# Altium footprint library 0805rgb.PcbLib: 2 footprints
Each footprint in its own frame and in the unit in brackets; x right, y up, seen from the top. Pads: shape width x height; smd on the part's side, far side on the other; paste and mask are expansions set on the pad; w line width, h text height; cw(c..) or ccw(c..) is an arc to the next point about the centre after c.
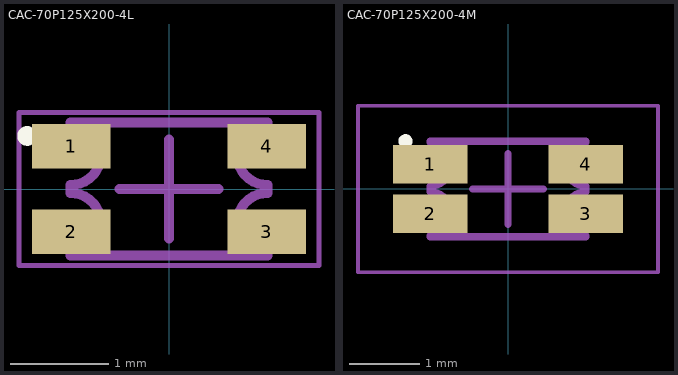
[diagram p0: the footprints below, top view; thin cyan lines are the x and y axes]

## CAC-70P125X200-4L [mm] "Chip Array, Concave, 4-Leads, Pitch 0.70mm,  Body 1.25x2.00mm,  IPC High Density"
height 0.58
pads (4):
  rect 0.8x0.45 smd: 1(-0.991,0.432) 2(-0.991,-0.432) 3(0.991,-0.432) 4(0.991,0.432)
Top Overlay:
  circle w0.1: c-1.437,0.538 r0.05
Mechanical 13:
  lines w0.1: -1,-0.675 1,-0.675 1,-0.66 cw(c1,-0.35) 1,-0.04 1,0.04 cw(c1,0.35) 1,0.66 1,0.675 -1,0.675 -1,0.66 cw(c-1,0.35) -1,0.04 -1,-0.04 cw(c-1,-0.35) -1,-0.66 -1,-0.675
Mechanical 15:
  lines w0.05: -1.52,-0.775 1.52,-0.775 1.52,0.775 -1.52,0.775 -1.52,-0.775
  lines w0.1: -0.5,0 0.5,0 ; 0,-0.5 0,0.5
3D body: height 0.58, standoff 0, extent -1.05,-0.675 1.05,0.675

## CAC-70P125X200-4M [mm] "Chip Array, Concave, 4-Leads, Pitch 0.70mm,  Body 1.25x2.00mm,  IPC Low Density"
height 0.58
pads (4):
  rect 1.05x0.55 smd: 1(-1.1,0.35) 2(-1.1,-0.35) 3(1.1,-0.35) 4(1.1,0.35)
Top Overlay:
  circle w0.1: c-1.45,0.675 r0.05
Mechanical 13:
  lines w0.1: -1.1,-0.675 1.1,-0.675 1.1,-0.66 cw(c1.1,-0.35) 1.1,-0.04 1.1,0.04 cw(c1.1,0.35) 1.1,0.66 1.1,0.675 -1.1,0.675 -1.1,0.66 cw(c-1.1,0.35) -1.1,0.04 -1.1,-0.04 cw(c-1.1,-0.35) -1.1,-0.66 -1.1,-0.675
Mechanical 15:
  lines w0.05: -2.12,-1.175 2.12,-1.175 2.12,1.175 -2.12,1.175 -2.12,-1.175
  lines w0.1: -0.5,0 0.5,0 ; 0,-0.5 0,0.5
3D body: height 0.58, standoff 0, extent -1.05,-0.675 1.05,0.675